# Altium integrated library TI Data Converters Analog to Digital Converter.IntLib: 2197 symbols (part 114 of 168)
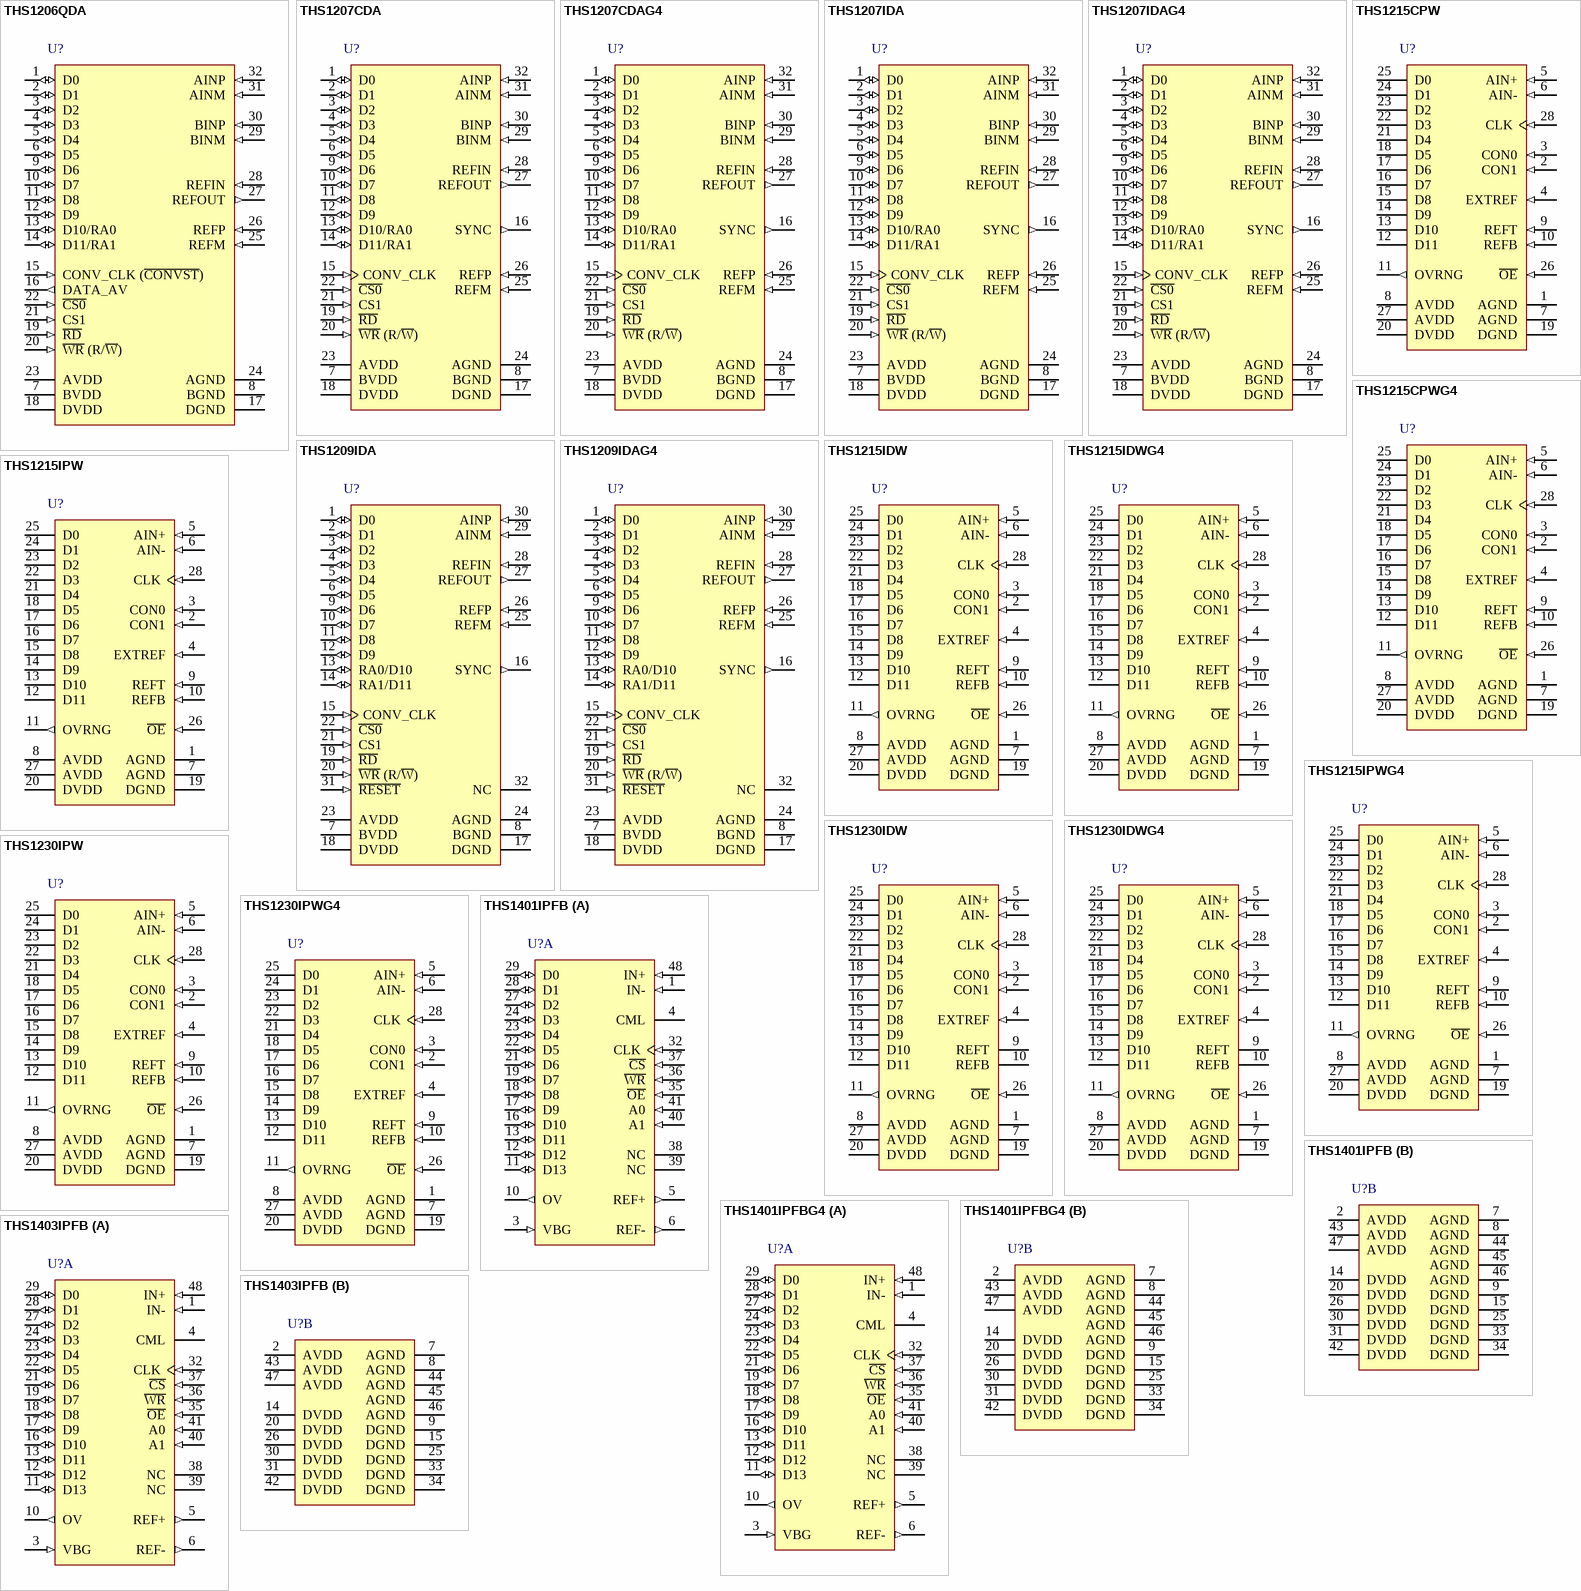
[diagram p239: symbols THS1206QDA to THS1403IPFB]

## THS1207IDAG4
designator U?
12-Bit, 6 MSPS Simultaneous Sampling Quad Channel ADC, Includes Parallel DSP / uP Interface & Channel Autoscan, -40 to 85 degC, 32-pin SOP (DA32), Green (RoHS & no Sb/Br); Manufacturer: Texas Instruments; PartNumber: THS1207IDAG4; # Input Channels: 4; Analog Voltage AV/DD(Max)(V): 5.25; Analog Voltage AV/DD(Min)(V): 4.75; Architecture: Pipeline; INL(Max)(+/-LSB): 1.5; Interface: Parallel CMOS; Resolution(Bits): 12; Sample Rate (max)(SPS): 6M; SFDR(dB): 71; SINAD(dB): 63; SNR(dB): 69; SubFamily: Precision ADC (<=10MSPS); DatasheetVersion: SLAS284A; PackageVersion: 4040066/F, 01/2009; PackageReference: DA32; PackageDescription: 32-Pin Plastic Small Outline, Body 11 x 6.1 mm, Pitch 0.65 mm; Supplier 1: Digi-Key; Supplier Part Number 1: TLV1572IDR-ND; Supplier 2: Newark; Supplier Part Number 2: 76C7823; Supplier 3: Mouser; Supplier Part Number 3: 595-TLV1572IDR; Digital Supply(Max)(V): 5.25; Digital Supply(Min)(V): 4.75; Eco-Plan: Green (RoHS & no Sb/Br); Mounting Technology: Surface Mount; Code_JEDEC: MO-225; ComponentLink1Description: Manufacturer URL; ComponentLink1URL: http://www.ti.com/; ComponentLink2Description: Datasheet; ComponentLink2URL: http://www.ti.com/general/docs/lit/getliterature.tsp?genericPartNumber=THS1207&fileType=pdf; ComponentLink3Description: Package Specification; ComponentLink3URL: http://www.ti.com/lit/ml/mtss002e/mtss002e.pdf
footprint TI-DA32_N (SOP, 32-Leads, Body 11x6.1mm, Pitch 0.65mm, IPC Medium Density)
footprint TI-DA32_L (SOP, 32-Leads, Body 11x6.1mm, Pitch 0.65mm, IPC High Density)
footprint TI-DA32_M (SOP, 32-Leads, Body 11x6.1mm, Pitch 0.65mm, IPC Low Density)
pins: 1 D0 (io) "Digital input, output; D0 = LSB", 2 D1 (io) "Digital input, output; D0 = LSB", 3 D2 (io) "Digital input, output; D0 = LSB", 4 D3 (io) "Digital input, output; D0 = LSB", 5 D4 (io) "Digital input, output; D0 = LSB", 6 D5 (io) "Digital input, output; D0 = LSB", 7 BVDD (power) "Digital supply voltage for buffer", 8 BGND (power) "Digital ground for buffer", 9 D6 (io) "Digital input, output; D0 = LSB", 10 D7 (io) "Digital input, output; D0 = LSB", 11 D8 (io) "Digital input, output; D0 = LSB", 12 D9 (io) "Digital input, output; D0 = LSB", 13 D10/RA0 (io) "Digital input, output. The data line D10 is also used as an address line (RA0) for the control register. This is required for writing to the control register 0 and control register 1. See Table 7.", 14 D11/RA1 (io) "Digital input, output (D11 = MSB). The data line D11 is also used as an address line (RA1) for the control register. This is required for writing to control register 0 and control register 1. See Table 7.", 15 CONV_CLK (in) "Digital input. This input is the conversion clock input.", 16 SYNC (out) "Synchronization output. This signal indicates in a multichannel operation that data of channel A is brought to the digital output and can therefore be used for synchronization.", 17 DGND (power) "Digital ground. Ground reference for digital circuitry.", 18 DVDD (power) "Digital supply voltage", 19 ~{RD} (in) "The R\D\ input is used only if the W\R\ input is configured as a write only input. In this case, it is a digital input, active low as a data read select from the processor. See timing section.", 20 ~{WR} (R/~{W}) (in) "This input is programmable. It functions as a read-write input (R/W\) and can also be configured as a write-only input (W\R\), which is active low and used as data write select from the processor. In this case, the R\D\ (See Datasheet)", 21 CS1 (in) "Chip select input (active high)", 22 ~{CS0} (in) "Chip select input (active low)", 23 AVDD (power) "Analog supply voltage", 24 AGND (power) "Analog ground", 25 REFM (in) "Reference input, requires a bypass capacitor of 10 uF to AGND in order to bypass the internal reference voltage. An external reference voltage at this input can be applied. This option can be programmed through control (See Datasheet)", 26 REFP (in) "Reference input, requires a bypass capacitor of 10 uF to AGND in order to bypass the internal reference voltage. An external reference voltage at this input can be applied. This option can be programmed through control (See Datasheet)", 27 REFOUT (out) "Analog fixed reference output voltage of 2.5 V. Sink and source capability of 250 uA. The reference output requires a capacitor of 10 uF to AGND for filtering and stability.", 28 REFIN (in) "Common-mode reference input for the analog input channels. It is recommended that this pin be connected to the reference output REFOUT.", 29 BINM (in) "Analog input, single-ended or negative input of differential channel B", 30 BINP (in) "Analog input, single-ended or positive input of differential channel B", 31 AINM (in) "Analog input, single-ended or negative input of differential channel A", 32 AINP (in) "Analog input, single-ended or positive input of differential channel A"

## THS1209IDA
designator U?
12-Bit, 8 MSPS ADC Dual Channel, DSP / uP Interface, Channel Autoscan, Low Power, -40 to 85 degC, 32-pin SOP (DA32), Green (RoHS & no Sb/Br); Manufacturer: Texas Instruments; PartNumber: THS1209IDA; # Input Channels: 2; Analog Voltage AV/DD(Max)(V): 5.25; Analog Voltage AV/DD(Min)(V): 4.75; Architecture: Pipeline; ENOB(Bits): 10.5; INL(Max)(+/-LSB): 1.5; Interface: Parallel CMOS; Resolution(Bits): 12; Sample Rate (max)(SPS): 8M; SFDR(dB): 71; SINAD(dB): 65; SNR(dB): 69; SubFamily: Precision ADC (<=10MSPS); DatasheetVersion: SLAS288B; PackageVersion: 4040066/F, 01/2009; PackageReference: DA32; PackageDescription: 32-Pin Plastic Small Outline, Body 11 x 6.1 mm, Pitch 0.65 mm; Supplier 1: Digi-Key; Supplier Part Number 1: TLV1572IDRG4-ND; Supplier 2: Mouser; Supplier Part Number 2: 595-TLV1572IDRG4; Digital Supply(Max)(V): 5.25; Digital Supply(Min)(V): 4.75; Eco-Plan: Green (RoHS & no Sb/Br); Mounting Technology: Surface Mount; Code_JEDEC: MO-225; ComponentLink1Description: Manufacturer URL; ComponentLink1URL: http://www.ti.com/; ComponentLink2Description: Datasheet; ComponentLink2URL: http://www.ti.com/general/docs/lit/getliterature.tsp?genericPartNumber=THS1209&fileType=pdf; ComponentLink3Description: Package Specification; ComponentLink3URL: http://www.ti.com/lit/ml/mtss002e/mtss002e.pdf
footprint TI-DA32_N (SOP, 32-Leads, Body 11x6.1mm, Pitch 0.65mm, IPC Medium Density)
footprint TI-DA32_L (SOP, 32-Leads, Body 11x6.1mm, Pitch 0.65mm, IPC High Density)
footprint TI-DA32_M (SOP, 32-Leads, Body 11x6.1mm, Pitch 0.65mm, IPC Low Density)
pins: 1 D0 (io) "Digital input, output; D0 = LSB", 2 D1 (io) "Digital input, output; D0 = LSB", 3 D2 (io) "Digital input, output; D0 = LSB", 4 D3 (io) "Digital input, output; D0 = LSB", 5 D4 (io) "Digital input, output; D0 = LSB", 6 D5 (io) "Digital input, output; D0 = LSB", 7 BVDD (power) "Digital supply voltage for buffer", 8 BGND (power) "Digital ground for buffer", 9 D6 (io) "Digital input, output; D0 = LSB", 10 D7 (io) "Digital input, output; D0 = LSB", 11 D8 (io) "Digital input, output; D0 = LSB", 12 D9 (io) "Digital input, output; D0 = LSB", 13 RA0/D10 (io) "Digital input, output. The data line D10 is also used as an address line (RA0) for the control register. This is required for writing to control register 0 and control register 1. See Table 7.", 14 RA1/D11 (io) "Digital input, output (D11 = MSB). The data line D11 is also used as an address line (RA1) for the control register. This is required for writing to control register 0 and control register 1. See Table 7.", 15 CONV_CLK (in) "Digital input. This input is the conversion clock input", 16 SYNC (out) "Synchronization output. This signal indicates in a multi-channel operation that data of channel A is brought to the digital output and can therefore be used for synchronization", 17 DGND (power) "Digital ground. Ground reference for digital circuitry.", 18 DVDD (power) "Digital supply voltage", 19 ~{RD} (in) "The R\D\ input is used only if the W\R\ input is configured as a write only input. In this case, it is a digital input, active low as a data read select from the processor. See timing section.", 20 ~{WR} (R/~{W}) (in) "This input is programmable. It functions as a read-write input (R/W\) and can also be configured as a write-only input (W\R\), which is active low and used as data write select from the processor. In this case, the R\D\ (See Datasheet)", 21 CS1 (in) "Chip select input (active high)", 22 ~{CS0} (in) "Chip select input (active low)", 23 AVDD (power) "Analog supply voltage", 24 AGND (power) "Analog ground", 25 REFM (in) "Reference input, requires a bypass capacitor of 10 uF to AGND in order to bypass the internal reference voltage. An external reference voltage at this input can be applied. This option can be programmed through control (See Datasheet)", 26 REFP (in) "Reference input, requires a bypass capacitor of 10 uF to AGND in order to bypass the internal reference voltage. An external reference voltage at this input can be applied. This option can be programmed through control (See Datasheet)", 27 REFOUT (out) "Analog fixed reference output voltage of 2.5 V. Sink and source capability of 250 uA. The reference output requires a capacitor of 10 uF to AGND for filtering and stability.", 28 REFIN (in) "Common-mode reference input for the analog input channels. It is recommended that this pin be connected to the reference output REFOUT.", 29 AINM (in) "Analog input, single-ended or negative input of differential channel A", 30 AINP (in) "Analog input, single-ended or positive input of differential channel A", 31 ~{RESET} (in) "Hardware reset of the THS12082. Sets the control register to default values.", 32 NC "Not connected"

## THS1209IDAG4
designator U?
12-Bit, 8 MSPS ADC Dual Channel, DSP / uP Interface, Channel Autoscan, Low Power, -40 to 85 degC, 32-pin SOP (DA32), Green (RoHS & no Sb/Br); Manufacturer: Texas Instruments; PartNumber: THS1209IDAG4; # Input Channels: 2; Analog Voltage AV/DD(Max)(V): 5.25; Analog Voltage AV/DD(Min)(V): 4.75; Architecture: Pipeline; ENOB(Bits): 10.5; INL(Max)(+/-LSB): 1.5; Interface: Parallel CMOS; Resolution(Bits): 12; Sample Rate (max)(SPS): 8M; SFDR(dB): 71; SINAD(dB): 65; SNR(dB): 69; SubFamily: Precision ADC (<=10MSPS); DatasheetVersion: SLAS288B; PackageVersion: 4040066/F, 01/2009; PackageReference: DA32; PackageDescription: 32-Pin Plastic Small Outline, Body 11 x 6.1 mm, Pitch 0.65 mm; Supplier 1: Digi-Key; Supplier Part Number 1: 296-28948-2-ND; Supplier 2: Digi-Key; Supplier Part Number 2: 296-28948-1-ND; Supplier 3: Digi-Key; Supplier Part Number 3: 296-28948-6-ND; Supplier 4: Newark; Supplier Part Number 4: 52T7496; Supplier 5: Mouser; Supplier Part Number 5: 595-ADS7887MDBVT; Digital Supply(Max)(V): 5.25; Digital Supply(Min)(V): 4.75; Eco-Plan: Green (RoHS & no Sb/Br); Mounting Technology: Surface Mount; Code_JEDEC: MO-225; ComponentLink1Description: Manufacturer URL; ComponentLink1URL: http://www.ti.com/; ComponentLink2Description: Datasheet; ComponentLink2URL: http://www.ti.com/general/docs/lit/getliterature.tsp?genericPartNumber=THS1209&fileType=pdf; ComponentLink3Description: Package Specification; ComponentLink3URL: http://www.ti.com/lit/ml/mtss002e/mtss002e.pdf
footprint TI-DA32_N (SOP, 32-Leads, Body 11x6.1mm, Pitch 0.65mm, IPC Medium Density)
footprint TI-DA32_L (SOP, 32-Leads, Body 11x6.1mm, Pitch 0.65mm, IPC High Density)
footprint TI-DA32_M (SOP, 32-Leads, Body 11x6.1mm, Pitch 0.65mm, IPC Low Density)
pins: 1 D0 (io) "Digital input, output; D0 = LSB", 2 D1 (io) "Digital input, output; D0 = LSB", 3 D2 (io) "Digital input, output; D0 = LSB", 4 D3 (io) "Digital input, output; D0 = LSB", 5 D4 (io) "Digital input, output; D0 = LSB", 6 D5 (io) "Digital input, output; D0 = LSB", 7 BVDD (power) "Digital supply voltage for buffer", 8 BGND (power) "Digital ground for buffer", 9 D6 (io) "Digital input, output; D0 = LSB", 10 D7 (io) "Digital input, output; D0 = LSB", 11 D8 (io) "Digital input, output; D0 = LSB", 12 D9 (io) "Digital input, output; D0 = LSB", 13 RA0/D10 (io) "Digital input, output. The data line D10 is also used as an address line (RA0) for the control register. This is required for writing to control register 0 and control register 1. See Table 7.", 14 RA1/D11 (io) "Digital input, output (D11 = MSB). The data line D11 is also used as an address line (RA1) for the control register. This is required for writing to control register 0 and control register 1. See Table 7.", 15 CONV_CLK (in) "Digital input. This input is the conversion clock input", 16 SYNC (out) "Synchronization output. This signal indicates in a multi-channel operation that data of channel A is brought to the digital output and can therefore be used for synchronization", 17 DGND (power) "Digital ground. Ground reference for digital circuitry.", 18 DVDD (power) "Digital supply voltage", 19 ~{RD} (in) "The R\D\ input is used only if the W\R\ input is configured as a write only input. In this case, it is a digital input, active low as a data read select from the processor. See timing section.", 20 ~{WR} (R/~{W}) (in) "This input is programmable. It functions as a read-write input (R/W\) and can also be configured as a write-only input (W\R\), which is active low and used as data write select from the processor. In this case, the R\D\ (See Datasheet)", 21 CS1 (in) "Chip select input (active high)", 22 ~{CS0} (in) "Chip select input (active low)", 23 AVDD (power) "Analog supply voltage", 24 AGND (power) "Analog ground", 25 REFM (in) "Reference input, requires a bypass capacitor of 10 uF to AGND in order to bypass the internal reference voltage. An external reference voltage at this input can be applied. This option can be programmed through control (See Datasheet)", 26 REFP (in) "Reference input, requires a bypass capacitor of 10 uF to AGND in order to bypass the internal reference voltage. An external reference voltage at this input can be applied. This option can be programmed through control (See Datasheet)", 27 REFOUT (out) "Analog fixed reference output voltage of 2.5 V. Sink and source capability of 250 uA. The reference output requires a capacitor of 10 uF to AGND for filtering and stability.", 28 REFIN (in) "Common-mode reference input for the analog input channels. It is recommended that this pin be connected to the reference output REFOUT.", 29 AINM (in) "Analog input, single-ended or negative input of differential channel A", 30 AINP (in) "Analog input, single-ended or positive input of differential channel A", 31 ~{RESET} (in) "Hardware reset of the THS12082. Sets the control register to default values.", 32 NC "Not connected"

## THS1215CPW
designator U?
12-Bit, 15 MSPS ADC with Low Power and Excellent ENOB, 0 to 70 degC, 28-pin SOP (PW28), Green (RoHS & no Sb/Br); Manufacturer: Texas Instruments; PartNumber: THS1215CPW; # Input Channels: 1; Analog Voltage AV/DD(Max)(V): 3.6; Analog Voltage AV/DD(Min)(V): 3; Architecture: Pipeline; ENOB(Bits): 11.1; INL(Max)(+/-LSB): 2.5; Interface: Parallel CMOS; Resolution(Bits): 12; Sample Rate (max)(SPS): 15M; SFDR(dB): 81.7; SINAD(dB): 68.6; SNR(dB): 68.9; SubFamily: High Speed ADC (>10MSPS); DatasheetVersion: SLAS292A; PackageVersion: 4040064-7/G, 02/2011; PackageReference: PW28; PackageDescription: 28-Pin Plastic Small Outline, Body 9.7 x 4.4 mm, Pitch 0.65 mm; Supplier 1: Digi-Key; Supplier Part Number 1: ADS7955QDBTRQ1-ND; Supplier 2: Newark; Supplier Part Number 2: 76T5205; Supplier 3: Mouser; Supplier Part Number 3: 595-ADS7955QDBTRQ1; Digital Supply(Max)(V): 3.6; Digital Supply(Min)(V): 3; Eco-Plan: Green (RoHS & no Sb/Br); Mounting Technology: Surface Mount; Code_JEDEC: MO-153; ComponentLink1Description: Manufacturer URL; ComponentLink1URL: http://www.ti.com/; ComponentLink2Description: Datasheet; ComponentLink2URL: http://www.ti.com/general/docs/lit/getliterature.tsp?genericPartNumber=THS1215&fileType=pdf; ComponentLink3Description: Package Specification; ComponentLink3URL: http://www.ti.com/litv/pdf/mpds364
footprint TI-PW28_N (SOP, 28-Leads, Body 9.7x4.4mm, Pitch 0.65mm, IPC Medium Density)
footprint TI-PW28_L (SOP, 28-Leads, Body 9.7x4.4mm, Pitch 0.65mm, IPC High Density)
footprint TI-PW28_M (SOP, 28-Leads, Body 9.7x4.4mm, Pitch 0.65mm, IPC Low Density)
pins: 1 AGND (power) "Analog ground", 2 CON1 (in) "Configuration input 1", 3 CON0 (in) "Configuration input 0", 4 EXTREF (in) "Reference select input (high = external, low = internal)", 5 AIN+ (in) "Positive analog input", 6 AIN- (in) "Negative analog input", 7 AGND (power) "Analog ground", 8 AVDD (power) "Analog supply", 9 REFT (in) "Upper ADC reference voltage", 10 REFB (in) "Lower ADC reference voltage", 11 OVRNG (out) "Out of range indicator (high = out of range)", 12 D11 (hiz) "ADC data bit 11", 13 D10 (hiz) "ADC data bit 10", 14 D9 (hiz) "ADC data bit 9", 15 D8 (hiz) "ADC data bit 8", 16 D7 (hiz) "ADC data bit 7", 17 D6 (hiz) "ADC data bit 6", 18 D5 (hiz) "ADC data bit 5", 19 DGND (power) "Digital ground", 20 DVDD (power) "Digital supply", 21 D4 (hiz) "ADC data bit 4", 22 D3 (hiz) "ADC data bit 3", 23 D2 (hiz) "ADC data bit 2", 24 D1 (hiz) "ADC data bit 1", 25 D0 (hiz) "ADC data bit 0", 26 ~{OE} (in) "Output enable (high = disable, low = enable)", 27 AVDD (power) "Analog supply", 28 CLK (in) "ADC conversion clock"

## THS1215CPWG4
designator U?
12-Bit, 15 MSPS ADC with Low Power and Excellent ENOB, 0 to 70 degC, 28-pin SOP (PW28), Green (RoHS & no Sb/Br); Manufacturer: Texas Instruments; PartNumber: THS1215CPWG4; # Input Channels: 1; Analog Voltage AV/DD(Max)(V): 3.6; Analog Voltage AV/DD(Min)(V): 3; Architecture: Pipeline; ENOB(Bits): 11.1; INL(Max)(+/-LSB): 2.5; Interface: Parallel CMOS; Resolution(Bits): 12; Sample Rate (max)(SPS): 15M; SFDR(dB): 81.7; SINAD(dB): 68.6; SNR(dB): 68.9; SubFamily: High Speed ADC (>10MSPS); DatasheetVersion: SLAS292A; PackageVersion: 4040064-7/G, 02/2011; PackageReference: PW28; PackageDescription: 28-Pin Plastic Small Outline, Body 9.7 x 4.4 mm, Pitch 0.65 mm; Supplier 1: Digi-Key; Supplier Part Number 1: ADS7223SRHBR-ND; Supplier 2: Mouser; Supplier Part Number 2: 595-ADS7223SRHBR; Digital Supply(Max)(V): 3.6; Digital Supply(Min)(V): 3; Eco-Plan: Green (RoHS & no Sb/Br); Mounting Technology: Surface Mount; Code_JEDEC: MO-153; ComponentLink1Description: Manufacturer URL; ComponentLink1URL: http://www.ti.com/; ComponentLink2Description: Datasheet; ComponentLink2URL: http://www.ti.com/general/docs/lit/getliterature.tsp?genericPartNumber=THS1215&fileType=pdf; ComponentLink3Description: Package Specification; ComponentLink3URL: http://www.ti.com/litv/pdf/mpds364
footprint TI-PW28_N (SOP, 28-Leads, Body 9.7x4.4mm, Pitch 0.65mm, IPC Medium Density)
footprint TI-PW28_L (SOP, 28-Leads, Body 9.7x4.4mm, Pitch 0.65mm, IPC High Density)
footprint TI-PW28_M (SOP, 28-Leads, Body 9.7x4.4mm, Pitch 0.65mm, IPC Low Density)
pins: 1 AGND (power) "Analog ground", 2 CON1 (in) "Configuration input 1", 3 CON0 (in) "Configuration input 0", 4 EXTREF (in) "Reference select input (high = external, low = internal)", 5 AIN+ (in) "Positive analog input", 6 AIN- (in) "Negative analog input", 7 AGND (power) "Analog ground", 8 AVDD (power) "Analog supply", 9 REFT (in) "Upper ADC reference voltage", 10 REFB (in) "Lower ADC reference voltage", 11 OVRNG (out) "Out of range indicator (high = out of range)", 12 D11 (hiz) "ADC data bit 11", 13 D10 (hiz) "ADC data bit 10", 14 D9 (hiz) "ADC data bit 9", 15 D8 (hiz) "ADC data bit 8", 16 D7 (hiz) "ADC data bit 7", 17 D6 (hiz) "ADC data bit 6", 18 D5 (hiz) "ADC data bit 5", 19 DGND (power) "Digital ground", 20 DVDD (power) "Digital supply", 21 D4 (hiz) "ADC data bit 4", 22 D3 (hiz) "ADC data bit 3", 23 D2 (hiz) "ADC data bit 2", 24 D1 (hiz) "ADC data bit 1", 25 D0 (hiz) "ADC data bit 0", 26 ~{OE} (in) "Output enable (high = disable, low = enable)", 27 AVDD (power) "Analog supply", 28 CLK (in) "ADC conversion clock"

## THS1215IDW
designator U?
12-Bit, 15 MSPS ADC with Low Power and Excellent ENOB, -40 to 85 degC, 28-pin SOIC (DW28), Green (RoHS & no Sb/Br); Manufacturer: Texas Instruments; PartNumber: THS1215IDW; # Input Channels: 1; Analog Voltage AV/DD(Max)(V): 3.6; Analog Voltage AV/DD(Min)(V): 3; Architecture: Pipeline; ENOB(Bits): 11.1; INL(Max)(+/-LSB): 2.5; Interface: Parallel CMOS; Resolution(Bits): 12; Sample Rate (max)(SPS): 15M; SFDR(dB): 81.7; SINAD(dB): 68.6; SNR(dB): 68.9; SubFamily: High Speed ADC (>10MSPS); DatasheetVersion: SLAS292A; PackageVersion: 4040000-6/G, 01/2011; PackageReference: DW28; PackageDescription: 28-Pin Plastic Small Outline, Body 17.90 x 7.50 mm, Pitch 1.27 mm; Digital Supply(Max)(V): 3.6; Digital Supply(Min)(V): 3; Eco-Plan: Green (RoHS & no Sb/Br); Mounting Technology: Surface Mount; Code_JEDEC: MS-013; ComponentLink1Description: Manufacturer URL; ComponentLink1URL: http://www.ti.com/; ComponentLink2Description: Datasheet; ComponentLink2URL: http://www.ti.com/general/docs/lit/getliterature.tsp?genericPartNumber=THS1215&fileType=pdf; ComponentLink3Description: Package Specification; ComponentLink3URL: http://www.ti.com/lit/ml/mpds175a/mpds175a.pdf
footprint TI-DW28_N (SOIC, 28-Leads, Body 17.9x7.5mm, Pitch 1.27mm, IPC Medium Density)
footprint TI-DW28_L (SOIC, 28-Leads, Body 17.9x7.5mm, Pitch 1.27mm, IPC High Density)
footprint TI-DW28_M (SOIC, 28-Leads, Body 17.9x7.5mm, Pitch 1.27mm, IPC Low Density)
pins: 1 AGND (power) "Analog ground", 2 CON1 (in) "Configuration input 1", 3 CON0 (in) "Configuration input 0", 4 EXTREF (in) "Reference select input (high = external, low = internal)", 5 AIN+ (in) "Positive analog input", 6 AIN- (in) "Negative analog input", 7 AGND (power) "Analog ground", 8 AVDD (power) "Analog supply", 9 REFT (in) "Upper ADC reference voltage", 10 REFB (in) "Lower ADC reference voltage", 11 OVRNG (out) "Out of range indicator (high = out of range)", 12 D11 (hiz) "ADC data bit 11", 13 D10 (hiz) "ADC data bit 10", 14 D9 (hiz) "ADC data bit 9", 15 D8 (hiz) "ADC data bit 8", 16 D7 (hiz) "ADC data bit 7", 17 D6 (hiz) "ADC data bit 6", 18 D5 (hiz) "ADC data bit 5", 19 DGND (power) "Digital ground", 20 DVDD (power) "Digital supply", 21 D4 (hiz) "ADC data bit 4", 22 D3 (hiz) "ADC data bit 3", 23 D2 (hiz) "ADC data bit 2", 24 D1 (hiz) "ADC data bit 1", 25 D0 (hiz) "ADC data bit 0", 26 ~{OE} (in) "Output enable (high = disable, low = enable)", 27 AVDD (power) "Analog supply", 28 CLK (in) "ADC conversion clock"

## THS1215IDWG4
designator U?
12-Bit, 15 MSPS ADC with Low Power and Excellent ENOB, -40 to 85 degC, 28-pin SOIC (DW28), Green (RoHS & no Sb/Br); Manufacturer: Texas Instruments; PartNumber: THS1215IDWG4; # Input Channels: 1; Analog Voltage AV/DD(Max)(V): 3.6; Analog Voltage AV/DD(Min)(V): 3; Architecture: Pipeline; ENOB(Bits): 11.1; INL(Max)(+/-LSB): 2.5; Interface: Parallel CMOS; Resolution(Bits): 12; Sample Rate (max)(SPS): 15M; SFDR(dB): 81.7; SINAD(dB): 68.6; SNR(dB): 68.9; SubFamily: High Speed ADC (>10MSPS); DatasheetVersion: SLAS292A; PackageVersion: 4040000-6/G, 01/2011; PackageReference: DW28; PackageDescription: 28-Pin Plastic Small Outline, Body 17.90 x 7.50 mm, Pitch 1.27 mm; Supplier 1: Digi-Key; Supplier Part Number 1: 296-29339-2-ND; Supplier 2: Digi-Key; Supplier Part Number 2: 296-29339-1-ND; Supplier 3: Digi-Key; Supplier Part Number 3: 296-29339-6-ND; Supplier 4: Farnell; Supplier Part Number 4: 1972809; Supplier 5: Newark; Supplier Part Number 5: 61T5812; Supplier 6: Mouser; Supplier Part Number 6: 595-ADS8634SRGER; Digital Supply(Max)(V): 3.6; Digital Supply(Min)(V): 3; Eco-Plan: Green (RoHS & no Sb/Br); Mounting Technology: Surface Mount; Code_JEDEC: MS-013; ComponentLink1Description: Manufacturer URL; ComponentLink1URL: http://www.ti.com/; ComponentLink2Description: Datasheet; ComponentLink2URL: http://www.ti.com/general/docs/lit/getliterature.tsp?genericPartNumber=THS1215&fileType=pdf; ComponentLink3Description: Package Specification; ComponentLink3URL: http://www.ti.com/lit/ml/mpds175a/mpds175a.pdf
footprint TI-DW28_N (SOIC, 28-Leads, Body 17.9x7.5mm, Pitch 1.27mm, IPC Medium Density)
footprint TI-DW28_L (SOIC, 28-Leads, Body 17.9x7.5mm, Pitch 1.27mm, IPC High Density)
footprint TI-DW28_M (SOIC, 28-Leads, Body 17.9x7.5mm, Pitch 1.27mm, IPC Low Density)
pins: 1 AGND (power) "Analog ground", 2 CON1 (in) "Configuration input 1", 3 CON0 (in) "Configuration input 0", 4 EXTREF (in) "Reference select input (high = external, low = internal)", 5 AIN+ (in) "Positive analog input", 6 AIN- (in) "Negative analog input", 7 AGND (power) "Analog ground", 8 AVDD (power) "Analog supply", 9 REFT (in) "Upper ADC reference voltage", 10 REFB (in) "Lower ADC reference voltage", 11 OVRNG (out) "Out of range indicator (high = out of range)", 12 D11 (hiz) "ADC data bit 11", 13 D10 (hiz) "ADC data bit 10", 14 D9 (hiz) "ADC data bit 9", 15 D8 (hiz) "ADC data bit 8", 16 D7 (hiz) "ADC data bit 7", 17 D6 (hiz) "ADC data bit 6", 18 D5 (hiz) "ADC data bit 5", 19 DGND (power) "Digital ground", 20 DVDD (power) "Digital supply", 21 D4 (hiz) "ADC data bit 4", 22 D3 (hiz) "ADC data bit 3", 23 D2 (hiz) "ADC data bit 2", 24 D1 (hiz) "ADC data bit 1", 25 D0 (hiz) "ADC data bit 0", 26 ~{OE} (in) "Output enable (high = disable, low = enable)", 27 AVDD (power) "Analog supply", 28 CLK (in) "ADC conversion clock"

## THS1215IPW
designator U?
12-Bit, 15 MSPS ADC with Low Power and Excellent ENOB, -40 to 85 degC, 28-pin SOP (PW28), Green (RoHS & no Sb/Br); Manufacturer: Texas Instruments; PartNumber: THS1215IPW; # Input Channels: 1; Analog Voltage AV/DD(Max)(V): 3.6; Analog Voltage AV/DD(Min)(V): 3; Architecture: Pipeline; ENOB(Bits): 11.1; INL(Max)(+/-LSB): 2.5; Interface: Parallel CMOS; Resolution(Bits): 12; Sample Rate (max)(SPS): 15M; SFDR(dB): 81.7; SINAD(dB): 68.6; SNR(dB): 68.9; SubFamily: High Speed ADC (>10MSPS); DatasheetVersion: SLAS292A; PackageVersion: 4040064-7/G, 02/2011; PackageReference: PW28; PackageDescription: 28-Pin Plastic Small Outline, Body 9.7 x 4.4 mm, Pitch 0.65 mm; Supplier 1: Digi-Key; Supplier Part Number 1: 296-29328-2-ND; Supplier 2: Digi-Key; Supplier Part Number 2: 296-29328-1-ND; Supplier 3: Digi-Key; Supplier Part Number 3: 296-29328-6-ND; Supplier 4: Farnell; Supplier Part Number 4: 1972810; Supplier 5: Newark; Supplier Part Number 5: 58T2996; Supplier 6: Mouser; Supplier Part Number 6: 595-ADS8634SRGET; Digital Supply(Max)(V): 3.6; Digital Supply(Min)(V): 3; Eco-Plan: Green (RoHS & no Sb/Br); Mounting Technology: Surface Mount; Code_JEDEC: MO-153; ComponentLink1Description: Manufacturer URL; ComponentLink1URL: http://www.ti.com/; ComponentLink2Description: Datasheet; ComponentLink2URL: http://www.ti.com/general/docs/lit/getliterature.tsp?genericPartNumber=THS1215&fileType=pdf; ComponentLink3Description: Package Specification; ComponentLink3URL: http://www.ti.com/litv/pdf/mpds364
footprint TI-PW28_N (SOP, 28-Leads, Body 9.7x4.4mm, Pitch 0.65mm, IPC Medium Density)
footprint TI-PW28_L (SOP, 28-Leads, Body 9.7x4.4mm, Pitch 0.65mm, IPC High Density)
footprint TI-PW28_M (SOP, 28-Leads, Body 9.7x4.4mm, Pitch 0.65mm, IPC Low Density)
pins: 1 AGND (power) "Analog ground", 2 CON1 (in) "Configuration input 1", 3 CON0 (in) "Configuration input 0", 4 EXTREF (in) "Reference select input (high = external, low = internal)", 5 AIN+ (in) "Positive analog input", 6 AIN- (in) "Negative analog input", 7 AGND (power) "Analog ground", 8 AVDD (power) "Analog supply", 9 REFT (in) "Upper ADC reference voltage", 10 REFB (in) "Lower ADC reference voltage", 11 OVRNG (out) "Out of range indicator (high = out of range)", 12 D11 (hiz) "ADC data bit 11", 13 D10 (hiz) "ADC data bit 10", 14 D9 (hiz) "ADC data bit 9", 15 D8 (hiz) "ADC data bit 8", 16 D7 (hiz) "ADC data bit 7", 17 D6 (hiz) "ADC data bit 6", 18 D5 (hiz) "ADC data bit 5", 19 DGND (power) "Digital ground", 20 DVDD (power) "Digital supply", 21 D4 (hiz) "ADC data bit 4", 22 D3 (hiz) "ADC data bit 3", 23 D2 (hiz) "ADC data bit 2", 24 D1 (hiz) "ADC data bit 1", 25 D0 (hiz) "ADC data bit 0", 26 ~{OE} (in) "Output enable (high = disable, low = enable)", 27 AVDD (power) "Analog supply", 28 CLK (in) "ADC conversion clock"

## THS1215IPWG4
designator U?
12-Bit, 15 MSPS ADC with Low Power and Excellent ENOB, -40 to 85 degC, 28-pin SOP (PW28), Green (RoHS & no Sb/Br); Manufacturer: Texas Instruments; PartNumber: THS1215IPWG4; # Input Channels: 1; Analog Voltage AV/DD(Max)(V): 3.6; Analog Voltage AV/DD(Min)(V): 3; Architecture: Pipeline; ENOB(Bits): 11.1; INL(Max)(+/-LSB): 2.5; Interface: Parallel CMOS; Resolution(Bits): 12; Sample Rate (max)(SPS): 15M; SFDR(dB): 81.7; SINAD(dB): 68.6; SNR(dB): 68.9; SubFamily: High Speed ADC (>10MSPS); DatasheetVersion: SLAS292A; PackageVersion: 4040064-7/G, 02/2011; PackageReference: PW28; PackageDescription: 28-Pin Plastic Small Outline, Body 9.7 x 4.4 mm, Pitch 0.65 mm; Supplier 1: Digi-Key; Supplier Part Number 1: 296-28206-ND; Supplier 2: Newark; Supplier Part Number 2: 27T6173; Supplier 3: Mouser; Supplier Part Number 3: 595-ADS8555SPM; Digital Supply(Max)(V): 3.6; Digital Supply(Min)(V): 3; Eco-Plan: Green (RoHS & no Sb/Br); Mounting Technology: Surface Mount; Code_JEDEC: MO-153; ComponentLink1Description: Manufacturer URL; ComponentLink1URL: http://www.ti.com/; ComponentLink2Description: Datasheet; ComponentLink2URL: http://www.ti.com/general/docs/lit/getliterature.tsp?genericPartNumber=THS1215&fileType=pdf; ComponentLink3Description: Package Specification; ComponentLink3URL: http://www.ti.com/litv/pdf/mpds364
footprint TI-PW28_N (SOP, 28-Leads, Body 9.7x4.4mm, Pitch 0.65mm, IPC Medium Density)
footprint TI-PW28_L (SOP, 28-Leads, Body 9.7x4.4mm, Pitch 0.65mm, IPC High Density)
footprint TI-PW28_M (SOP, 28-Leads, Body 9.7x4.4mm, Pitch 0.65mm, IPC Low Density)
pins: 1 AGND (power) "Analog ground", 2 CON1 (in) "Configuration input 1", 3 CON0 (in) "Configuration input 0", 4 EXTREF (in) "Reference select input (high = external, low = internal)", 5 AIN+ (in) "Positive analog input", 6 AIN- (in) "Negative analog input", 7 AGND (power) "Analog ground", 8 AVDD (power) "Analog supply", 9 REFT (in) "Upper ADC reference voltage", 10 REFB (in) "Lower ADC reference voltage", 11 OVRNG (out) "Out of range indicator (high = out of range)", 12 D11 (hiz) "ADC data bit 11", 13 D10 (hiz) "ADC data bit 10", 14 D9 (hiz) "ADC data bit 9", 15 D8 (hiz) "ADC data bit 8", 16 D7 (hiz) "ADC data bit 7", 17 D6 (hiz) "ADC data bit 6", 18 D5 (hiz) "ADC data bit 5", 19 DGND (power) "Digital ground", 20 DVDD (power) "Digital supply", 21 D4 (hiz) "ADC data bit 4", 22 D3 (hiz) "ADC data bit 3", 23 D2 (hiz) "ADC data bit 2", 24 D1 (hiz) "ADC data bit 1", 25 D0 (hiz) "ADC data bit 0", 26 ~{OE} (in) "Output enable (high = disable, low = enable)", 27 AVDD (power) "Analog supply", 28 CLK (in) "ADC conversion clock"

## THS1230IDW
designator U?
Low Power, High-Speed ADC, -40 to 85 degC, 28-pin SOIC (DW28), Green (RoHS & no Sb/Br); Manufacturer: Texas Instruments; PartNumber: THS1230IDW; # Input Channels: 1; Analog Voltage AV/DD(Max)(V): 3.6; Analog Voltage AV/DD(Min)(V): 3; Architecture: Pipeline; ENOB(Bits): 10.9; INL(Max)(+/-LSB): 2; Interface: Parallel CMOS; Resolution(Bits): 12; Sample Rate (max)(SPS): 30M; SFDR(dB): 78.1; SINAD(dB): 67.4; SNR(dB): 68; SubFamily: High Speed ADC (>10MSPS); DatasheetVersion: SLAS291B; PackageVersion: 4040000-6/G, 01/2011; PackageReference: DW28; PackageDescription: 28-Pin Plastic Small Outline, Body 17.90 x 7.50 mm, Pitch 1.27 mm; Supplier 1: Digi-Key; Supplier Part Number 1: ADS8555SPMR-ND; Supplier 2: Mouser; Supplier Part Number 2: 595-ADS8555SPMR; Digital Supply(Max)(V): 3.6; Digital Supply(Min)(V): 3; Eco-Plan: Green (RoHS & no Sb/Br); Mounting Technology: Surface Mount; Code_JEDEC: MS-013; ComponentLink1Description: Manufacturer URL; ComponentLink1URL: http://www.ti.com/; ComponentLink2Description: Datasheet; ComponentLink2URL: http://www.ti.com/general/docs/lit/getliterature.tsp?genericPartNumber=THS1230&fileType=pdf; ComponentLink3Description: Package Specification; ComponentLink3URL: http://www.ti.com/lit/ml/mpds175a/mpds175a.pdf
footprint TI-DW28_N (SOIC, 28-Leads, Body 17.9x7.5mm, Pitch 1.27mm, IPC Medium Density)
footprint TI-DW28_L (SOIC, 28-Leads, Body 17.9x7.5mm, Pitch 1.27mm, IPC High Density)
footprint TI-DW28_M (SOIC, 28-Leads, Body 17.9x7.5mm, Pitch 1.27mm, IPC Low Density)
pins: 1 AGND (power) "Analog ground", 2 CON1 (in) "Configuration input 1", 3 CON0 (in) "Configuration input 0", 4 EXTREF (in) "Reference select input (high = external, low = internal)", 5 AIN+ (in) "Positive analog input", 6 AIN- (in) "Negative analog input", 7 AGND (power) "Analog ground", 8 AVDD (power) "Analog supply", 9 REFT "Upper ADC reference voltage", 10 REFB "Lower ADC reference voltage", 11 OVRNG (out) "Out of range indicator (high = out of range)", 12 D11 (hiz) "ADC data bit 11", 13 D10 (hiz) "ADC data bit 10", 14 D9 (hiz) "ADC data bit 9", 15 D8 (hiz) "ADC data bit 8", 16 D7 (hiz) "ADC data bit 7", 17 D6 (hiz) "ADC data bit 6", 18 D5 (hiz) "ADC data bit 5", 19 DGND (power) "Digital ground", 20 DVDD (power) "Digital supply", 21 D4 (hiz) "ADC data bit 4", 22 D3 (hiz) "ADC data bit 3", 23 D2 (hiz) "ADC data bit 2", 24 D1 (hiz) "ADC data bit 1", 25 D0 (hiz) "ADC data bit 0", 26 ~{OE} (in) "Output enable (high = disable, low = enable)", 27 AVDD (power) "Analog supply", 28 CLK (in) "ADC conversion clock"

## THS1230IDWG4
designator U?
Low Power, High-Speed ADC, -40 to 85 degC, 28-pin SOIC (DW28), Green (RoHS & no Sb/Br); Manufacturer: Texas Instruments; PartNumber: THS1230IDWG4; # Input Channels: 1; Analog Voltage AV/DD(Max)(V): 3.6; Analog Voltage AV/DD(Min)(V): 3; Architecture: Pipeline; ENOB(Bits): 10.9; INL(Max)(+/-LSB): 2; Interface: Parallel CMOS; Resolution(Bits): 12; Sample Rate (max)(SPS): 30M; SFDR(dB): 78.1; SINAD(dB): 67.4; SNR(dB): 68; SubFamily: High Speed ADC (>10MSPS); DatasheetVersion: SLAS291B; PackageVersion: 4040000-6/G, 01/2011; PackageReference: DW28; PackageDescription: 28-Pin Plastic Small Outline, Body 17.90 x 7.50 mm, Pitch 1.27 mm; Supplier 1: Digi-Key; Supplier Part Number 1: 296-2846-5-ND; Supplier 2: Mouser; Supplier Part Number 2: 595-TLC0820ACDB; Digital Supply(Max)(V): 3.6; Digital Supply(Min)(V): 3; Eco-Plan: Green (RoHS & no Sb/Br); Mounting Technology: Surface Mount; Code_JEDEC: MS-013; ComponentLink1Description: Manufacturer URL; ComponentLink1URL: http://www.ti.com/; ComponentLink2Description: Datasheet; ComponentLink2URL: http://www.ti.com/general/docs/lit/getliterature.tsp?genericPartNumber=THS1230&fileType=pdf; ComponentLink3Description: Package Specification; ComponentLink3URL: http://www.ti.com/lit/ml/mpds175a/mpds175a.pdf
footprint TI-DW28_N (SOIC, 28-Leads, Body 17.9x7.5mm, Pitch 1.27mm, IPC Medium Density)
footprint TI-DW28_L (SOIC, 28-Leads, Body 17.9x7.5mm, Pitch 1.27mm, IPC High Density)
footprint TI-DW28_M (SOIC, 28-Leads, Body 17.9x7.5mm, Pitch 1.27mm, IPC Low Density)
pins: 1 AGND (power) "Analog ground", 2 CON1 (in) "Configuration input 1", 3 CON0 (in) "Configuration input 0", 4 EXTREF (in) "Reference select input (high = external, low = internal)", 5 AIN+ (in) "Positive analog input", 6 AIN- (in) "Negative analog input", 7 AGND (power) "Analog ground", 8 AVDD (power) "Analog supply", 9 REFT "Upper ADC reference voltage", 10 REFB "Lower ADC reference voltage", 11 OVRNG (out) "Out of range indicator (high = out of range)", 12 D11 (hiz) "ADC data bit 11", 13 D10 (hiz) "ADC data bit 10", 14 D9 (hiz) "ADC data bit 9", 15 D8 (hiz) "ADC data bit 8", 16 D7 (hiz) "ADC data bit 7", 17 D6 (hiz) "ADC data bit 6", 18 D5 (hiz) "ADC data bit 5", 19 DGND (power) "Digital ground", 20 DVDD (power) "Digital supply", 21 D4 (hiz) "ADC data bit 4", 22 D3 (hiz) "ADC data bit 3", 23 D2 (hiz) "ADC data bit 2", 24 D1 (hiz) "ADC data bit 1", 25 D0 (hiz) "ADC data bit 0", 26 ~{OE} (in) "Output enable (high = disable, low = enable)", 27 AVDD (power) "Analog supply", 28 CLK (in) "ADC conversion clock"

## THS1230IPW
designator U?
Low Power, High-Speed ADC, -40 to 85 degC, 28-pin SOP (PW28), Green (RoHS & no Sb/Br); Manufacturer: Texas Instruments; PartNumber: THS1230IPW; # Input Channels: 1; Analog Voltage AV/DD(Max)(V): 3.6; Analog Voltage AV/DD(Min)(V): 3; Architecture: Pipeline; ENOB(Bits): 10.9; INL(Max)(+/-LSB): 2; Interface: Parallel CMOS; Resolution(Bits): 12; Sample Rate (max)(SPS): 30M; SFDR(dB): 78.1; SINAD(dB): 67.4; SNR(dB): 68; SubFamily: High Speed ADC (>10MSPS); DatasheetVersion: SLAS291B; PackageVersion: 4040064-7/G, 02/2011; PackageReference: PW28; PackageDescription: 28-Pin Plastic Small Outline, Body 9.7 x 4.4 mm, Pitch 0.65 mm; Supplier 1: Digi-Key; Supplier Part Number 1: TLC0820ACDBG4-ND; Supplier 2: Mouser; Supplier Part Number 2: 595-TLC0820ACDBG4; Digital Supply(Max)(V): 3.6; Digital Supply(Min)(V): 3; Eco-Plan: Green (RoHS & no Sb/Br); Mounting Technology: Surface Mount; Code_JEDEC: MO-153; ComponentLink1Description: Manufacturer URL; ComponentLink1URL: http://www.ti.com/; ComponentLink2Description: Datasheet; ComponentLink2URL: http://www.ti.com/general/docs/lit/getliterature.tsp?genericPartNumber=THS1230&fileType=pdf; ComponentLink3Description: Package Specification; ComponentLink3URL: http://www.ti.com/litv/pdf/mpds364
footprint TI-PW28_N (SOP, 28-Leads, Body 9.7x4.4mm, Pitch 0.65mm, IPC Medium Density)
footprint TI-PW28_L (SOP, 28-Leads, Body 9.7x4.4mm, Pitch 0.65mm, IPC High Density)
footprint TI-PW28_M (SOP, 28-Leads, Body 9.7x4.4mm, Pitch 0.65mm, IPC Low Density)
pins: 1 AGND (power) "Analog ground", 2 CON1 (in) "Configuration input 1", 3 CON0 (in) "Configuration input 0", 4 EXTREF (in) "Reference select input (high = external, low = internal)", 5 AIN+ (in) "Positive analog input", 6 AIN- (in) "Negative analog input", 7 AGND (power) "Analog ground", 8 AVDD (power) "Analog supply", 9 REFT (in) "Upper ADC reference voltage", 10 REFB (in) "Lower ADC reference voltage", 11 OVRNG (out) "Out of range indicator (high = out of range)", 12 D11 (hiz) "ADC data bit 11", 13 D10 (hiz) "ADC data bit 10", 14 D9 (hiz) "ADC data bit 9", 15 D8 (hiz) "ADC data bit 8", 16 D7 (hiz) "ADC data bit 7", 17 D6 (hiz) "ADC data bit 6", 18 D5 (hiz) "ADC data bit 5", 19 DGND (power) "Digital ground", 20 DVDD (power) "Digital supply", 21 D4 (hiz) "ADC data bit 4", 22 D3 (hiz) "ADC data bit 3", 23 D2 (hiz) "ADC data bit 2", 24 D1 (hiz) "ADC data bit 1", 25 D0 (hiz) "ADC data bit 0", 26 ~{OE} (in) "Output enable (high = disable, low = enable)", 27 AVDD (power) "Analog supply", 28 CLK (in) "ADC conversion clock"

## THS1230IPWG4
designator U?
Low Power, High-Speed ADC, -40 to 85 degC, 28-pin SOP (PW28), Green (RoHS & no Sb/Br); Manufacturer: Texas Instruments; PartNumber: THS1230IPWG4; # Input Channels: 1; Analog Voltage AV/DD(Max)(V): 3.6; Analog Voltage AV/DD(Min)(V): 3; Architecture: Pipeline; ENOB(Bits): 10.9; INL(Max)(+/-LSB): 2; Interface: Parallel CMOS; Resolution(Bits): 12; Sample Rate (max)(SPS): 30M; SFDR(dB): 78.1; SINAD(dB): 67.4; SNR(dB): 68; SubFamily: High Speed ADC (>10MSPS); DatasheetVersion: SLAS291B; PackageVersion: 4040064-7/G, 02/2011; PackageReference: PW28; PackageDescription: 28-Pin Plastic Small Outline, Body 9.7 x 4.4 mm, Pitch 0.65 mm; Supplier 1: Digi-Key; Supplier Part Number 1: 296-2846-2-ND; Supplier 2: Digi-Key; Supplier Part Number 2: 296-2846-1-ND; Supplier 3: Digi-Key; Supplier Part Number 3: 296-2846-6-ND; Supplier 4: Mouser; Supplier Part Number 4: 595-TLC0820ACDBR; Digital Supply(Max)(V): 3.6; Digital Supply(Min)(V): 3; Eco-Plan: Green (RoHS & no Sb/Br); Mounting Technology: Surface Mount; Code_JEDEC: MO-153; ComponentLink1Description: Manufacturer URL; ComponentLink1URL: http://www.ti.com/; ComponentLink2Description: Datasheet; ComponentLink2URL: http://www.ti.com/general/docs/lit/getliterature.tsp?genericPartNumber=THS1230&fileType=pdf; ComponentLink3Description: Package Specification; ComponentLink3URL: http://www.ti.com/litv/pdf/mpds364
footprint TI-PW28_N (SOP, 28-Leads, Body 9.7x4.4mm, Pitch 0.65mm, IPC Medium Density)
footprint TI-PW28_L (SOP, 28-Leads, Body 9.7x4.4mm, Pitch 0.65mm, IPC High Density)
footprint TI-PW28_M (SOP, 28-Leads, Body 9.7x4.4mm, Pitch 0.65mm, IPC Low Density)
pins: 1 AGND (power) "Analog ground", 2 CON1 (in) "Configuration input 1", 3 CON0 (in) "Configuration input 0", 4 EXTREF (in) "Reference select input (high = external, low = internal)", 5 AIN+ (in) "Positive analog input", 6 AIN- (in) "Negative analog input", 7 AGND (power) "Analog ground", 8 AVDD (power) "Analog supply", 9 REFT (in) "Upper ADC reference voltage", 10 REFB (in) "Lower ADC reference voltage", 11 OVRNG (out) "Out of range indicator (high = out of range)", 12 D11 (hiz) "ADC data bit 11", 13 D10 (hiz) "ADC data bit 10", 14 D9 (hiz) "ADC data bit 9", 15 D8 (hiz) "ADC data bit 8", 16 D7 (hiz) "ADC data bit 7", 17 D6 (hiz) "ADC data bit 6", 18 D5 (hiz) "ADC data bit 5", 19 DGND (power) "Digital ground", 20 DVDD (power) "Digital supply", 21 D4 (hiz) "ADC data bit 4", 22 D3 (hiz) "ADC data bit 3", 23 D2 (hiz) "ADC data bit 2", 24 D1 (hiz) "ADC data bit 1", 25 D0 (hiz) "ADC data bit 0", 26 ~{OE} (in) "Output enable (high = disable, low = enable)", 27 AVDD (power) "Analog supply", 28 CLK (in) "ADC conversion clock"

## THS1401IPFB
designator U?
14-Bit, 1 MSPS ADC Single Channel, Differential Input, DSP / uP Interface, Programmable Gain Amplifier, Internal S&H, -40 to 85 degC, 48-pin QFP (PFB48), Green (RoHS & no Sb/Br); Manufacturer: Texas Instruments; PartNumber: THS1401IPFB; # Input Channels: 1; Analog Voltage AV/DD(Max)(V): 3.6; Analog Voltage AV/DD(Min)(V): 3; Architecture: Pipeline; ENOB(Bits): 11.5; INL(Max)(+/-LSB): 2.5; Interface: Parallel CMOS; Resolution(Bits): 14; Sample Rate (max)(SPS): 1M; SFDR(dB): 80; SINAD(dB): 70; SNR(dB): 72; SubFamily: Precision ADC (<=10MSPS); DatasheetVersion: SLAS248D; PackageVersion: 4073176/B, 10/1996; PackageReference: PFB48; PackageDescription: 48-Pin Plastic Flat Pack, Body 7 x 7 mm, Pitch 0.5 mm; Supplier 1: Digi-Key; Supplier Part Number 1: TLC0820ACDBRG4-ND; Supplier 2: Mouser; Supplier Part Number 2: 595-TLC0820ACDBRG4; Digital Supply(Max)(V): 3.6; Digital Supply(Min)(V): 3; Eco-Plan: Green (RoHS & no Sb/Br); Mounting Technology: Surface Mount; Code_JEDEC: MS-026; ComponentLink1Description: Manufacturer URL; ComponentLink1URL: http://www.ti.com/; ComponentLink2Description: Datasheet; ComponentLink2URL: http://www.ti.com/general/docs/lit/getliterature.tsp?genericPartNumber=THS1401&fileType=pdf; ComponentLink3Description: Package Specification; ComponentLink3URL: http://www.ti.com/lit/ml/mtqf019a/mtqf019a.pdf
footprint TI-PFB48_N (QFP, 48-Leads, Body 7x7mm, Pitch 0.5mm, IPC Medium Density)
footprint TI-PFB48_L (QFP, 48-Leads, Body 7x7mm, Pitch 0.5mm, IPC High Density)
footprint TI-PFB48_M (QFP, 48-Leads, Body 7x7mm, Pitch 0.5mm, IPC Low Density)
part A pins: 1 IN- (in) "Negative differential analog input", 3 VBG (in) "Reference input. This pin requires a 1-uF capacitor to AGND.", 4 CML "Reference midpoint. This pin requires a 0.1-uF capacitor to AGND.", 5 REF+ (out) "Positive reference output. This pin requires a 0.1-uF capacitor to AGND.", 6 REF- (out) "Negative reference output. This pin requires a 0.1-uF capacitor to AGND.", 10 OV (out) "Out of range output", 11 D13 (io) "Data inputs/outputs", 12 D12 (io) "Data inputs/outputs", 13 D11 (io) "Data inputs/outputs", 16 D10 (io) "Data inputs/outputs", 17 D9 (io) "Data inputs/outputs", 18 D8 (io) "Data inputs/outputs", 19 D7 (io) "Data inputs/outputs", 21 D6 (io) "Data inputs/outputs", 22 D5 (io) "Data inputs/outputs", 23 D4 (io) "Data inputs/outputs", 24 D3 (io) "Data inputs/outputs", 27 D2 (io) "Data inputs/outputs", 28 D1 (io) "Data inputs/outputs", 29 D0 (io) "Data inputs/outputs", 32 CLK (in) "Clock input", 35 ~{OE} (in) "Output enable. Active low", 36 ~{WR} (in) "Write signal. Active low", 37 ~{CS} (in) "Chip select input. Active low", 38 NC "No connection; do not use. Reserved.", 39 NC "No connection; do not use. Reserved.", 40 A1 (in) "Address input", 41 A0 (in) "Address input", 48 IN+ (in) "Positive differential analog input"
part B pins: 2 AVDD (power) "Analog power supply", 7 AGND (power) "Analog ground", 8 AGND (power) "Analog ground", 9 DGND (power) "Digital ground", 14 DVDD (power) "Digital power supply", 15 DGND (power) "Digital ground", 20 DVDD (power) "Digital power supply", 25 DGND (power) "Digital ground", 26 DVDD (power) "Digital power supply", 30 DVDD (power) "Digital power supply", 31 DVDD (power) "Digital power supply", 33 DGND (power) "Digital ground", 34 DGND (power) "Digital ground", 42 DVDD (power) "Digital power supply", 43 AVDD (power) "Analog power supply", 44 AGND (power) "Analog ground", 45 AGND (power) "Analog ground", 46 AGND (power) "Analog ground", 47 AVDD (power) "Analog power supply"

## THS1401IPFBG4
designator U?
14-Bit, 1 MSPS ADC Single Channel, Differential Input, DSP / uP Interface, Programmable Gain Amplifier, Internal S&H, -40 to 85 degC, 48-pin QFP (PFB48), Green (RoHS & no Sb/Br); Manufacturer: Texas Instruments; PartNumber: THS1401IPFBG4; # Input Channels: 1; Analog Voltage AV/DD(Max)(V): 3.6; Analog Voltage AV/DD(Min)(V): 3; Architecture: Pipeline; ENOB(Bits): 11.5; INL(Max)(+/-LSB): 2.5; Interface: Parallel CMOS; Resolution(Bits): 14; Sample Rate (max)(SPS): 1M; SFDR(dB): 80; SINAD(dB): 70; SNR(dB): 72; SubFamily: Precision ADC (<=10MSPS); DatasheetVersion: SLAS248D; PackageVersion: 4073176/B, 10/1996; PackageReference: PFB48; PackageDescription: 48-Pin Plastic Flat Pack, Body 7 x 7 mm, Pitch 0.5 mm; Supplier 1: Digi-Key; Supplier Part Number 1: 296-2847-5-ND; Supplier 2: Newark; Supplier Part Number 2: 90B0878; Supplier 3: Mouser; Supplier Part Number 3: 595-TLC0820ACDW; Digital Supply(Max)(V): 3.6; Digital Supply(Min)(V): 3; Eco-Plan: Green (RoHS & no Sb/Br); Mounting Technology: Surface Mount; Code_JEDEC: MS-026; ComponentLink1Description: Manufacturer URL; ComponentLink1URL: http://www.ti.com/; ComponentLink2Description: Datasheet; ComponentLink2URL: http://www.ti.com/general/docs/lit/getliterature.tsp?genericPartNumber=THS1401&fileType=pdf; ComponentLink3Description: Package Specification; ComponentLink3URL: http://www.ti.com/lit/ml/mtqf019a/mtqf019a.pdf
footprint TI-PFB48_N (QFP, 48-Leads, Body 7x7mm, Pitch 0.5mm, IPC Medium Density)
footprint TI-PFB48_L (QFP, 48-Leads, Body 7x7mm, Pitch 0.5mm, IPC High Density)
footprint TI-PFB48_M (QFP, 48-Leads, Body 7x7mm, Pitch 0.5mm, IPC Low Density)
part A pins: 1 IN- (in) "Negative differential analog input", 3 VBG (in) "Reference input. This pin requires a 1-uF capacitor to AGND.", 4 CML "Reference midpoint. This pin requires a 0.1-uF capacitor to AGND.", 5 REF+ (out) "Positive reference output. This pin requires a 0.1-uF capacitor to AGND.", 6 REF- (out) "Negative reference output. This pin requires a 0.1-uF capacitor to AGND.", 10 OV (out) "Out of range output", 11 D13 (io) "Data inputs/outputs", 12 D12 (io) "Data inputs/outputs", 13 D11 (io) "Data inputs/outputs", 16 D10 (io) "Data inputs/outputs", 17 D9 (io) "Data inputs/outputs", 18 D8 (io) "Data inputs/outputs", 19 D7 (io) "Data inputs/outputs", 21 D6 (io) "Data inputs/outputs", 22 D5 (io) "Data inputs/outputs", 23 D4 (io) "Data inputs/outputs", 24 D3 (io) "Data inputs/outputs", 27 D2 (io) "Data inputs/outputs", 28 D1 (io) "Data inputs/outputs", 29 D0 (io) "Data inputs/outputs", 32 CLK (in) "Clock input", 35 ~{OE} (in) "Output enable. Active low", 36 ~{WR} (in) "Write signal. Active low", 37 ~{CS} (in) "Chip select input. Active low", 38 NC "No connection; do not use. Reserved.", 39 NC "No connection; do not use. Reserved.", 40 A1 (in) "Address input", 41 A0 (in) "Address input", 48 IN+ (in) "Positive differential analog input"
part B pins: 2 AVDD (power) "Analog power supply", 7 AGND (power) "Analog ground", 8 AGND (power) "Analog ground", 9 DGND (power) "Digital ground", 14 DVDD (power) "Digital power supply", 15 DGND (power) "Digital ground", 20 DVDD (power) "Digital power supply", 25 DGND (power) "Digital ground", 26 DVDD (power) "Digital power supply", 30 DVDD (power) "Digital power supply", 31 DVDD (power) "Digital power supply", 33 DGND (power) "Digital ground", 34 DGND (power) "Digital ground", 42 DVDD (power) "Digital power supply", 43 AVDD (power) "Analog power supply", 44 AGND (power) "Analog ground", 45 AGND (power) "Analog ground", 46 AGND (power) "Analog ground", 47 AVDD (power) "Analog power supply"